# Altium footprint library TCA39306DTMR.PcbLib: 1 footprints
Each footprint in its own frame and in the unit in brackets; x right, y up, seen from the top. Pads: shape width x height; smd on the part's side, far side on the other; paste and mask are expansions set on the pad; w line width, h text height; cw(c..) or ccw(c..) is an arc to the next point about the centre after c.
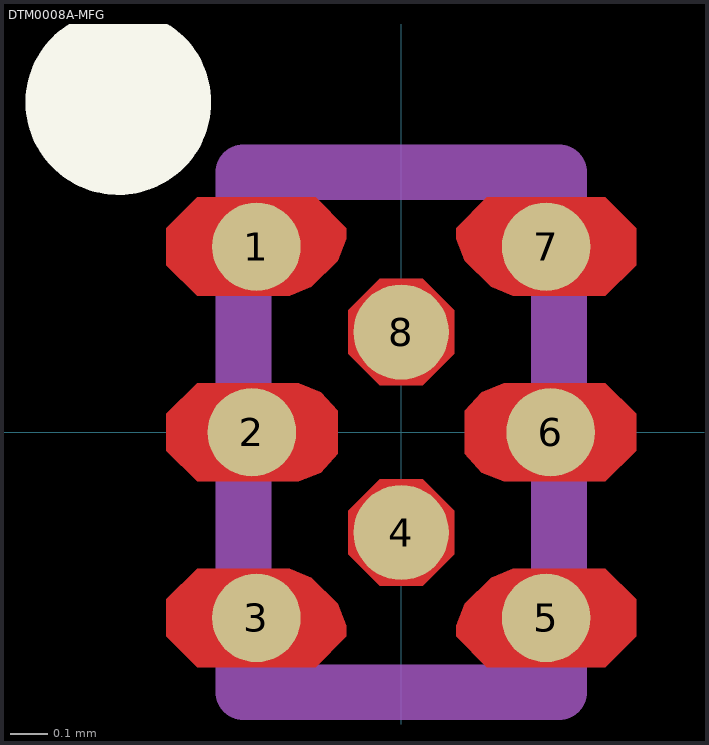
[diagram p0: the footprint, top view; thin cyan lines are the x and y axes]

## DTM0008A-MFG [mm]
pads (8):
  round 0.239 smd paste-0.107 mask-0.102: 1(-0.39,0.5) 2(-0.402,0) 3(-0.39,-0.5) 5(0.39,-0.5) 6(0.402,0) 7(0.39,0.5)
  round 0.256 smd paste-0.116 mask-0.114: 4(0,-0.27) 8(0,0.27)
Top Layer:
  region: 0.058,0.413 0.143,0.328 0.143,0.212 0.058,0.127 -0.058,0.127 -0.143,0.212 -0.143,0.328 -0.058,0.413
  region: 0.058,-0.127 0.143,-0.212 0.143,-0.328 0.058,-0.413 -0.058,-0.413 -0.143,-0.328 -0.143,-0.212 -0.058,-0.127
  region: -0.301,0.367 -0.55,0.367 -0.632,0.45 -0.632,0.55 -0.55,0.633 -0.23,0.633 -0.147,0.55 -0.147,0.521 -0.172,0.462 -0.242,0.392
  region: -0.301,-0.367 -0.55,-0.367 -0.632,-0.45 -0.632,-0.55 -0.55,-0.633 -0.23,-0.633 -0.147,-0.55 -0.148,-0.521 -0.172,-0.462 -0.242,-0.392
  region: 0.301,-0.367 0.55,-0.367 0.632,-0.45 0.632,-0.55 0.55,-0.633 0.23,-0.633 0.147,-0.55 0.147,-0.521 0.172,-0.462 0.242,-0.392
  region: 0.301,0.367 0.55,0.367 0.632,0.45 0.632,0.55 0.55,0.633 0.23,0.633 0.147,0.55 0.147,0.521 0.172,0.462 0.242,0.392
  region: -0.276,-0.132 -0.55,-0.132 -0.633,-0.05 -0.633,0.05 -0.55,0.132 -0.276,0.132 -0.217,0.108 -0.172,0.058 -0.172,-0.058 -0.217,-0.108
  region: 0.276,-0.132 0.55,-0.132 0.633,-0.05 0.633,0.05 0.55,0.132 0.276,0.133 0.217,0.108 0.172,0.058 0.172,-0.058 0.217,-0.108
Top Overlay:
  circle w0.25: c-0.762,0.889 r0.125
Top Paste:
  region: 0.035,0.39 0.12,0.305 0.12,0.235 0.035,0.15 -0.035,0.15 -0.12,0.235 -0.12,0.305 -0.035,0.39
  region: 0.035,-0.15 0.12,-0.235 0.12,-0.305 0.035,-0.39 -0.035,-0.39 -0.12,-0.305 -0.12,-0.235 -0.035,-0.15
  region: -0.329,0.4 -0.55,0.4 -0.6,0.45 -0.6,0.55 -0.55,0.6 -0.23,0.6 -0.18,0.55 -0.18,0.549 -0.195,0.514 -0.294,0.415
  region: 0.329,0.4 0.55,0.4 0.6,0.45 0.6,0.55 0.55,0.6 0.23,0.6 0.18,0.55 0.18,0.549 0.195,0.514 0.294,0.415
  region: 0.329,-0.4 0.55,-0.4 0.6,-0.45 0.6,-0.55 0.55,-0.6 0.23,-0.6 0.18,-0.55 0.18,-0.549 0.195,-0.514 0.294,-0.415
  region: -0.329,-0.4 -0.55,-0.4 -0.6,-0.45 -0.6,-0.55 -0.55,-0.6 -0.23,-0.6 -0.18,-0.55 -0.18,-0.549 -0.195,-0.514 -0.294,-0.415
  region: -0.285,-0.1 -0.55,-0.1 -0.6,-0.05 -0.6,0.05 -0.55,0.1 -0.285,0.1 -0.249,0.085 -0.204,0.035 -0.204,-0.035 -0.249,-0.085
  region: 0.28,-0.1 0.546,-0.1 0.596,-0.05 0.596,0.05 0.546,0.1 0.28,0.1 0.245,0.085 0.199,0.035 0.199,-0.035 0.245,-0.085
Top Solder:
  region: 0.035,0.39 0.12,0.305 0.12,0.235 0.035,0.15 -0.035,0.15 -0.12,0.235 -0.12,0.305 -0.035,0.39
  region: 0.035,-0.15 0.12,-0.235 0.12,-0.305 0.035,-0.39 -0.035,-0.39 -0.12,-0.305 -0.12,-0.235 -0.035,-0.15
  region: -0.301,0.4 -0.55,0.4 -0.6,0.45 -0.6,0.55 -0.55,0.6 -0.23,0.6 -0.18,0.55 -0.18,0.521 -0.195,0.485 -0.265,0.415
  region: 0.301,0.4 0.55,0.4 0.6,0.45 0.6,0.55 0.55,0.6 0.23,0.6 0.18,0.55 0.18,0.521 0.195,0.485 0.265,0.415
  region: 0.301,-0.4 0.55,-0.4 0.6,-0.45 0.6,-0.55 0.55,-0.6 0.23,-0.6 0.18,-0.55 0.18,-0.521 0.195,-0.485 0.265,-0.415
  region: -0.301,-0.4 -0.55,-0.4 -0.6,-0.45 -0.6,-0.55 -0.55,-0.6 -0.23,-0.6 -0.18,-0.55 -0.18,-0.521 -0.195,-0.485 -0.265,-0.415
  region: -0.276,-0.1 -0.55,-0.1 -0.6,-0.05 -0.6,0.05 -0.55,0.1 -0.276,0.1 -0.24,0.085 -0.195,0.035 -0.195,-0.035 -0.24,-0.085
  region: 0.276,-0.1 0.55,-0.1 0.6,-0.05 0.6,0.05 0.55,0.1 0.276,0.1 0.24,0.085 0.195,0.035 0.195,-0.035 0.24,-0.085
Mechanical 13:
  lines w0.15: -0.425,-0.7 0.425,-0.7 0.425,0.7 -0.425,0.7 -0.425,-0.7
3D body "DTM0008A.stp": height 0.4, standoff 0, extent -0.4,-0.675 0.4,0.675